# Altium schematic symbol library 3-644456-2.SchLib: 1 symbol
Pins are listed as number, name and electrical type; pins without a type are passive.

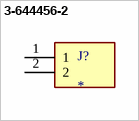
[diagram p0: symbol 3-644456-2]

## 3-644456-2
designator J?
MF: {'manufacturer': u'TE Connectivity'}; MP: 3-644456-2; Package: None; Price: None; Value: *; Availability: Unavailable
footprint TE_3-644456-2
pins: 1, 2